# Altium schematic symbol library 0603 50K.Schlib: 1 symbol
Pins are listed as number, name and electrical type; pins without a type are passive.

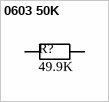
[diagram p0: symbol 0603 50K]

## 0603 50K
designator R?, comment value 49.9K  (hidden comment: Resistor)
49.9kΩ ±1% 0.1W ±100ppm/℃ 0603 Chip Resistor - Surface Mount RoHS; LCSC Part #: C23184
footprint RES 0603_1608 (Chip Resistor, 2-Leads, Body 1.60x0.80mm, IPC Medium Density)
pins: 1, 2